# Altium footprint library Bourns.PcbLib: 3 footprints
Each footprint in its own frame and in the unit in brackets; x right, y up, seen from the top. Pads: shape width x height; smd on the part's side, far side on the other; paste and mask are expansions set on the pad; w line width, h text height; cw(c..) or ccw(c..) is an arc to the next point about the centre after c.
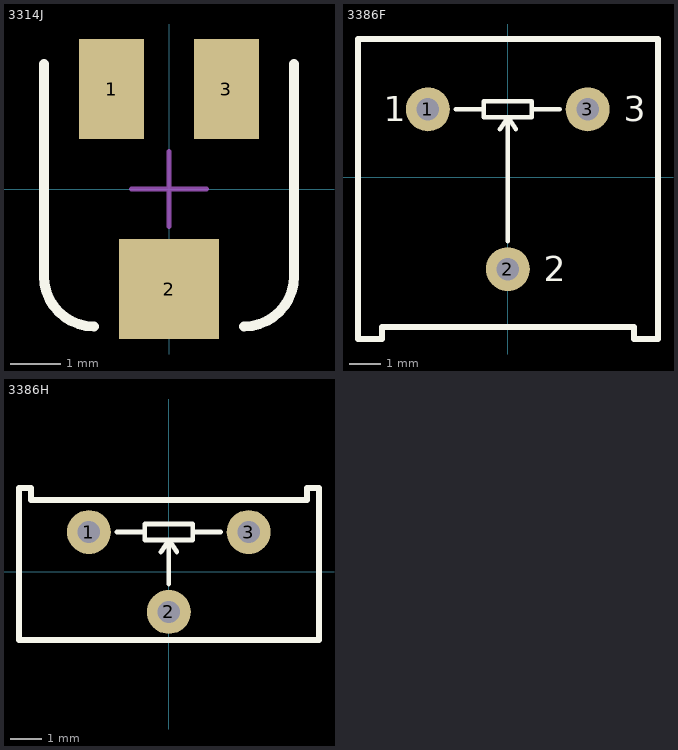
[diagram p0: the footprints below, top view; thin cyan lines are the x and y axes]

## 3314J [mm] "Potentiometer; SMD"
height 2.55
pads (3):
  rect 1.3x2 smd: 1(-1.15,2) 3(1.15,2)
  rect 2x2 smd: 2(0,-2)
Top Overlay:
  lines w0.2: -2.5,2.5 -2.5,-1.75 ccw(c-1.5,-1.75) -1.5,-2.75 ; 1.5,-2.75 ccw(c1.5,-1.75) 2.5,-1.75 2.5,2.5
Mechanical 15:
  lines w0.1: -0.75,0 0.75,0 ; 0,-0.75 0,0.75
3D body "3314J1.stp": height 2.7, standoff -0.02, extent -2.499,-2.502 2.5,2.502

## 3386F [mil] "Potentiometer"
pads (3):
  round 55 hole 28: 1(-100,85) 2(0,-115) 3(100,85)
Top Overlay:
  lines w5.91: -65,85 -30,85 ; -10,60 0,75 ; 0,-80 0,75 ; 10,60 0,75 ; 65,85 30,85 ; -30,85 -30,75 30,75 30,85 ; -30,85 -30,95 30,95 30,85
  lines w7.87: -187.5,-202.5 -187.5,173 188,173 188,-202.5 158,-202.5 158,-187.5 -157.5,-187.5 -157.5,-202.5 -187.5,-202.5
  text "1" at -155,70 h31.5
  text "3" at 145,70 h31.5
  text "2" at 45,-130 h31.5
3D body "3386f001.stp": height 196.85, standoff -233.15, extent -188.49,-202 188.51,175

## 3386H [mil] "Potentiometer"
pads (3):
  round 55 hole 28: 1(-100,50) 2(0,-50) 3(100,50)
Top Overlay:
  lines w5.91: -65,50 -30,50 ; -10,25 0,40 ; 0,-15 0,40 ; 10,25 0,40 ; 65,50 30,50 ; -30,50 -30,60 30,60 30,50 ; -30,50 -30,40 30,40 30,50
  lines w7.87: -187.5,-85 -187.5,105 -172.5,105 -172.5,90 173,90 173,105 188,105 188,-85 -187.5,-85
3D body "3386H001XXX.stp": height 377.95, standoff -233.19, extent -189.01,-89.62 187.99,105.38